# Altium footprint library TRIM_TS63Y103KT20.PcbLib: 1 footprints
Each footprint in its own frame and in the unit in brackets; x right, y up, seen from the top. Pads: shape width x height; smd on the part's side, far side on the other; paste and mask are expansions set on the pad; w line width, h text height; cw(c..) or ccw(c..) is an arc to the next point about the centre after c.
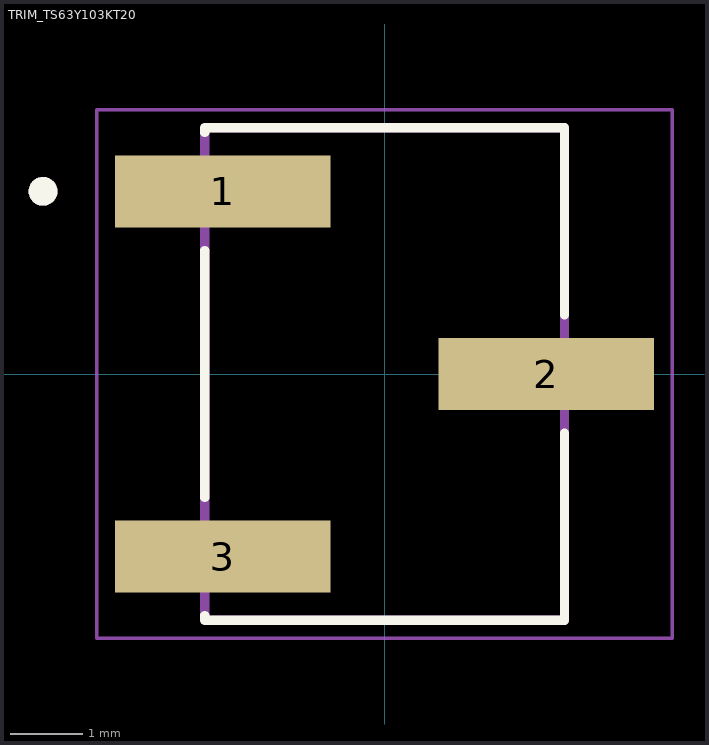
[diagram p0: the footprint, top view; thin cyan lines are the x and y axes]

## TRIM_TS63Y103KT20 [mm]
height 8
pads (3):
  rect 3x1 smd: 1(-2.25,2.54) 2(2.25,0) 3(-2.25,-2.54)
Top Overlay:
  circle w0.2: c-4.75,2.54 r0.1
  lines w0.127: -2.5,-3.36 -2.5,-3.425 2.5,-3.425 2.5,-0.82 ; -2.5,-1.72 -2.5,1.72 ; -2.5,3.36 -2.5,3.425 2.5,3.425 2.5,0.82
Mechanical 13:
  circle w0.2: c-4.75,2.54 r0.1
  lines w0.127: -2.5,-3.425 -2.5,3.425 2.5,3.425 2.5,-3.425 -2.5,-3.425
Mechanical 15:
  lines w0.05: -4,-3.675 -4,3.675 4,3.675 4,-3.675 -4,-3.675
3D body "step_temp.STEP": height 8, standoff 0, extent -3.35,-3.425 3.35,3.425